# EAGLE library part LM324 (library Bauteile)
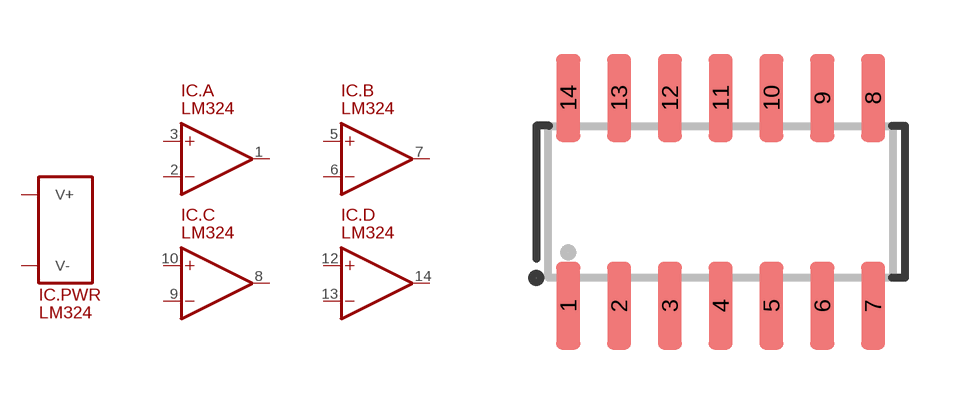
[diagram p8: symbol with the pads of SO14; footprint SO14]

Designator prefix IC; gates .PWR=SUPPLY_V+/V- .A=OP .B=OP .C=OP .D=OP

## LM324(SO14)  [SO14]
1  .A:OUT
2  .A:-IN
3  .A:+IN
4  .PWR:V+
5  .B:+IN
6  .B:-IN
7  .B:OUT
8  .C:OUT
9  .C:-IN
10  .C:+IN
11  .PWR:V-
12  .D:+IN
13  .D:-IN
14  .D:OUT

## Footprint SO14 (pad centres in mm)
smd 0.6 x 2.2: 1 -3.81,-2.6; 2 -2.54,-2.6; 3 -1.27,-2.6; 4 0,-2.6; 5 1.27,-2.6; 6 2.54,-2.6; 7 3.81,-2.6; 8 3.81,2.6; 9 2.54,2.6; 10 1.27,2.6; 11 0,2.6; 12 -1.27,2.6; 13 -2.54,2.6; 14 -3.81,2.6